# EAGLE library part AVRISP_ (library ISP)
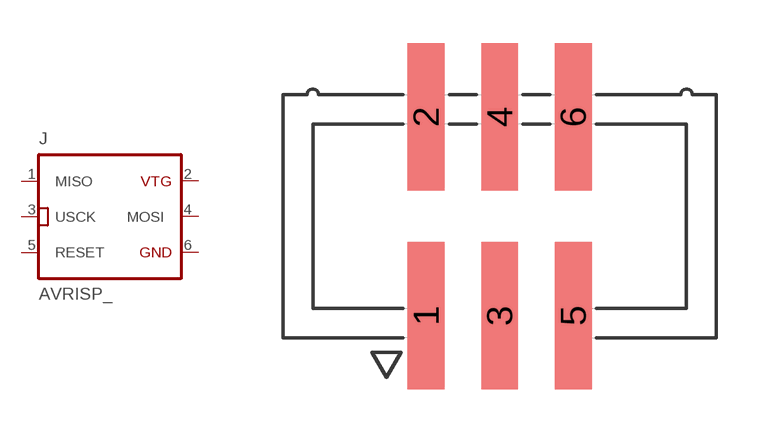
[diagram p0: symbol with the pads of N2506-6V0C; footprint N2506-6V0C]

Designator prefix J

## AVRISP_N2506-6V0C-RB-WD  [N2506-6V0C]
1  MISO
2  VTTL
3  USCK
4  MOSI
5  RESET
6  GND  pwr

## Footprint N2506-6V0C (pad centres in mm)
smd 1.27 x 5.08: 1 -2.54,-3.43; 2 -2.54,3.43; 3 0,-3.43; 4 0,3.43; 5 2.54,-3.43; 6 2.54,3.43